# Altium footprint library PCB - CAPACITOR - ALUMINIUM - CAP TH ALUM ELEC D4.00mm S1.50mm H8.00mm.PCBLIB: 1 footprints
Each footprint in its own frame and in the unit in brackets; x right, y up, seen from the top. Pads: shape width x height; smd on the part's side, far side on the other; paste and mask are expansions set on the pad; w line width, h text height; cw(c..) or ccw(c..) is an arc to the next point about the centre after c.
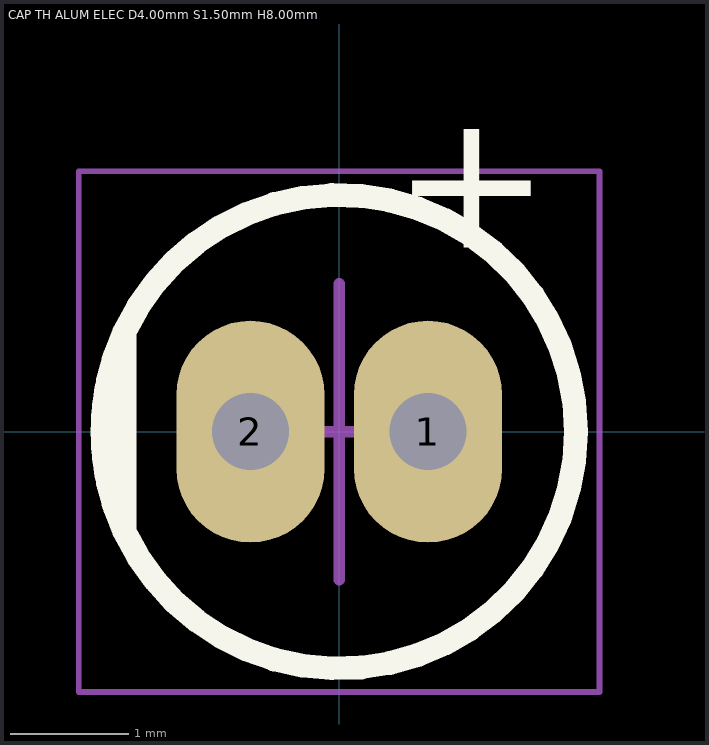
[diagram p0: the footprint, top view; thin cyan lines are the x and y axes]

## CAP TH ALUM ELEC D4.00mm S1.50mm H8.00mm [mm] "4mm Diameter 1.5mm Lead Spacing Aluminum Electrolytic Capacitors Radial, Can"
height 8
pads (2):
  oval 1.25x1.875 hole 0.65: 1(0.75,0) 2(-0.75,0)
Top Overlay:
  circle w0.2: c0,0 r2
  region: -1.813,-0.845 -1.905,-0.647 -2,-0.219 -2,0.219 -1.905,0.647 -1.813,0.845
  lines w0.2: -1.813,-0.845 cw(c0,0) -1.813,0.845 -1.813,-0.845
  text "+" at 0.45,1.175 h2
Mechanical 13:
  circle w0.1: c0,0 r2
  lines w0.1: -1.813,-0.845 -1.813,0.845
Mechanical 15:
  lines w0.05: -2.2,-2.2 2.2,-2.2 2.2,2.2 -2.2,2.2 -2.2,-2.2
  lines w0.1: -1.25,0 0,0 ; 0,-1.25 0,0 ; 0,1.25 0,0 ; 1.25,0 0,0
3D body "Cap TH D4.00mm H8.00mm L1.50mm.step": height 8, standoff -2.5, extent -2.009,-2 2,2